# Altium schematic symbol library WL-SFRW.SchLib: 2 symbols
Pins are listed as number, name and electrical type; pins without a type are passive.

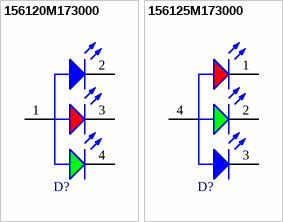
[diagram p0: symbols 156120M173000 to 156125M173000]

## 156120M173000
designator D?, comment Red & Green & Blue, 120°  (value not drawn)
WL-SFRW SMT Full-color Reverse mount Waterclear, size 1206, Red & Green & Blue, 120°; Manufacturer Part Number: 156120M173000; Manufacturer: Wurth Elektronik; Case/Size Code: 1206; Chip Technology: AlInGaP + InGaN; Dominant Wavelength (Blue): 470nm; Dominant Wavelength (Green): 525nm; Dominant Wavelength (Red): 624nm; Forward Voltage (Blue): 3.3V; Forward Voltage (Red): 2V; Luminous Intensity (Blue): 250mcd; Luminous Intensity (Green): 700mcd; Luminous Intensity (Red): 270mcd; Peak Wavelength (Blue): 468nm; Peak Wavelength (Green): 520nm; Peak Wavelength (Red): 632nm; Category: Signal LEDs; Match Code: WL-SFRW; ComponentLink1Description: Website Link; ComponentLink1URL: https://www.we-online.com/redexpert/article/156120M173000?ad; ComponentLink2Description: Datasheet Link; ComponentLink2URL: https://www.we-online.com/redexpert/spec/156120M173000?ad; Mount: Surface Mount; Operating Temperature Max: 85°C; Operating Temperature Min: -40°C; Packaging: Tape and Reel; Length: 3.2mm; Width: 1.6mm; Height: 1.1mm; Emitting Color: Red & Green & Blue; Forward Voltage (Green): 3.3V; Viewing Angle: 120°
footprint WL-SFRW_1206_reverse use
simulation model 1206_156120M173000
pins: 1 A, 2 K, 3 K, 4 K

## 156125M173000
designator D?, comment Red & Green & Blue, 120°  (value not drawn)
WL-SFRW SMT Full-color Reverse mount Waterclear, size 1205, Red & Green & Blue, 120°; Manufacturer Part Number: 156125M173000; Manufacturer: Wurth Elektronik; Case/Size Code: 1205; Chip Technology: AlInGaP + InGaN; Dominant Wavelength (Blue): 470nm; Dominant Wavelength (Green): 525nm; Dominant Wavelength (Red): 624nm; Forward Voltage (Blue): 3.3V; Forward Voltage (Red): 2V; Luminous Intensity (Blue): 70mcd; Luminous Intensity (Green): 280mcd; Luminous Intensity (Red): 80mcd; Peak Wavelength (Blue): 468nm; Peak Wavelength (Green): 520nm; Peak Wavelength (Red): 632nm; Category: Signal LEDs; Match Code: WL-SFRW; ComponentLink1Description: Website Link; ComponentLink1URL: https://www.we-online.com/redexpert/article/156125M173000?ad; ComponentLink2Description: Datasheet Link; ComponentLink2URL: https://www.we-online.com/redexpert/spec/156125M173000?ad; Mount: Through Hole; Operating Temperature Max: 85°C; Operating Temperature Min: -40°C; Packaging: Tray; Length: 3.2mm; Width: 1.2mm; Height: 0.8mm; Emitting Color: Red & Green & Blue; Forward Voltage (Green): 3.3V; Viewing Angle: 120°
footprint WL-SFRW_1205_reverse use
footprint WL-SFRW_1205_normal use
simulation model 1205_156125M173000
pins: 1 K, 2 K, 3 K, 4 A